# Altium footprint library 28Pins_Project_PCBLib.PcbLib: 26 footprints (part 1 of 2)
Each footprint in its own frame and in the unit in brackets; x right, y up, seen from the top. Pads: shape width x height; smd on the part's side, far side on the other; paste and mask are expansions set on the pad; w line width, h text height; cw(c..) or ccw(c..) is an arc to the next point about the centre after c.
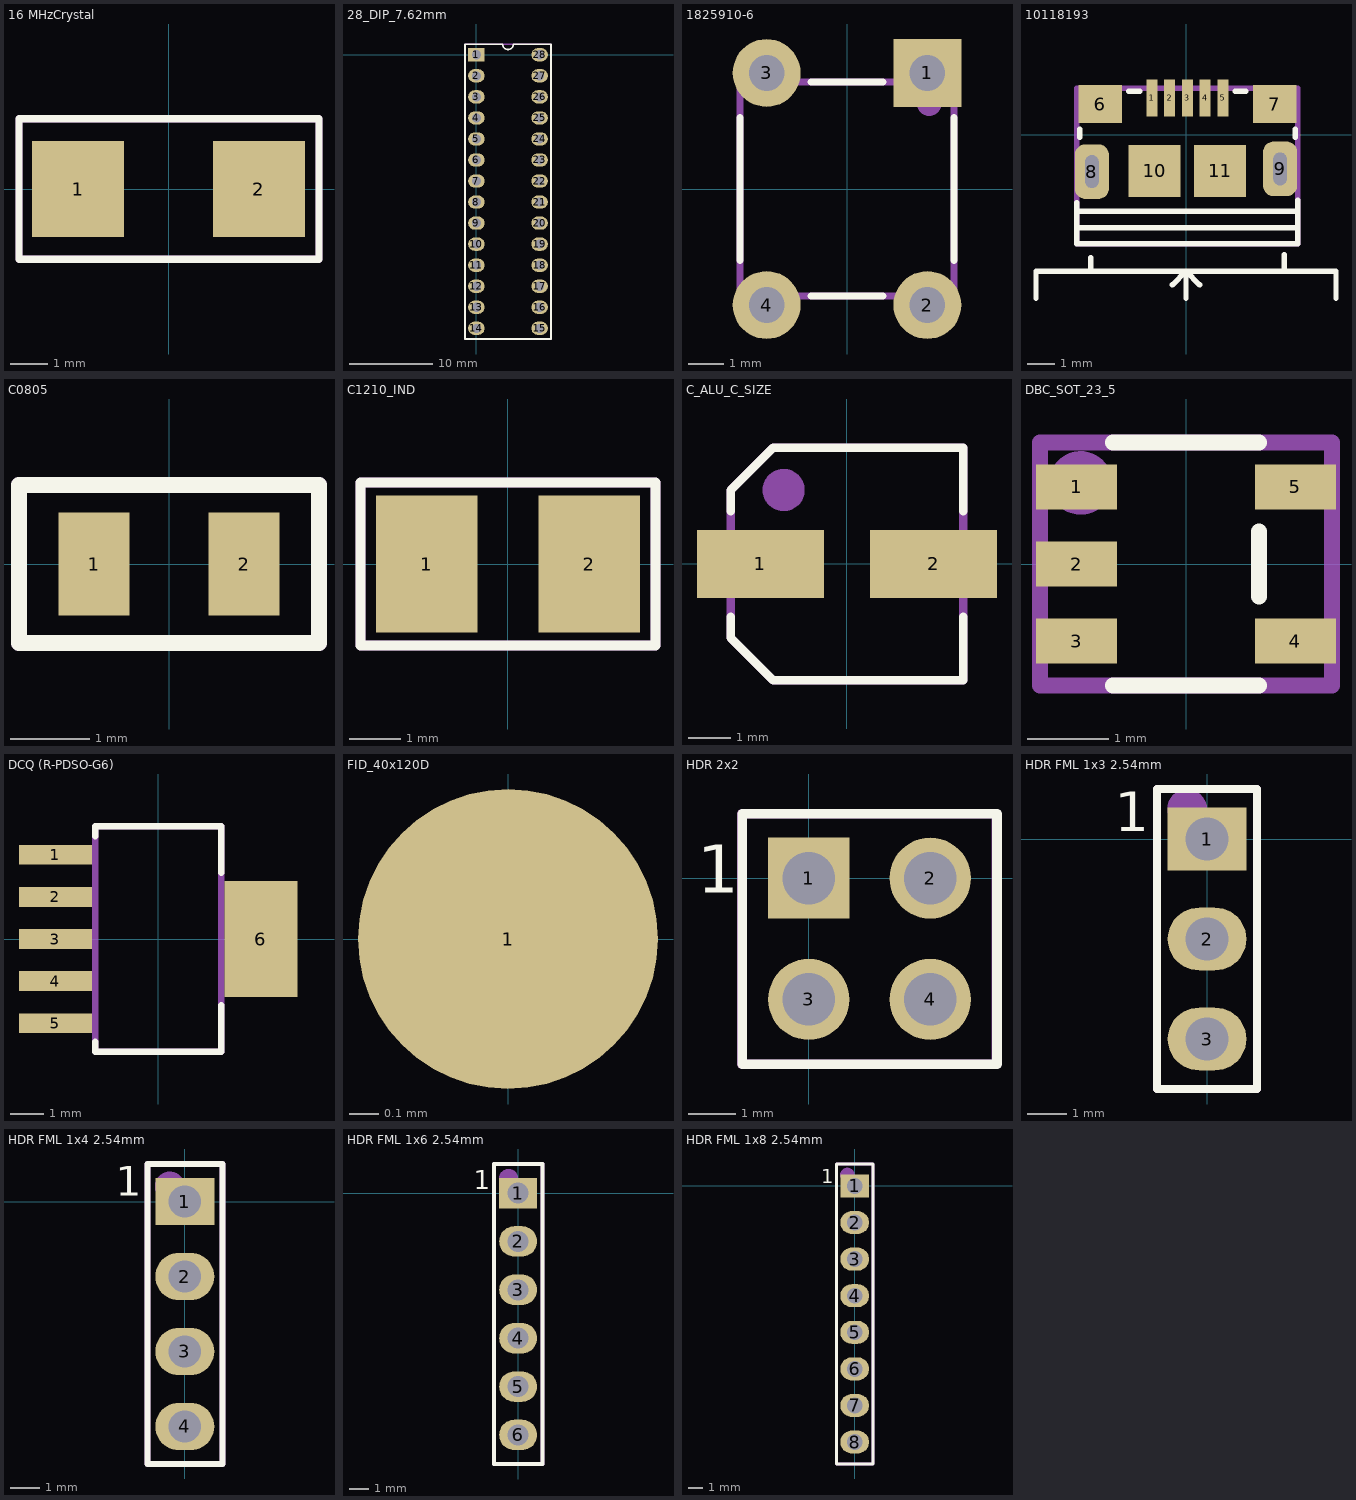
[diagram p0: the footprints below, top view; thin cyan lines are the x and y axes]

## 16 MHzCrystal [mm]
pads (2):
  rect 2.5x2.6 smd: 1(-2.45,0) 2(2.45,0)
Top Overlay:
  lines w0.2: -4.05,-1.9 4.075,-1.9 4.075,1.9 -4.05,1.9 -4.05,-1.9
Mechanical 29:
  lines w0.2: -4.05,-1.9 4.075,-1.9 4.075,1.9 -4.05,1.9 -4.05,-1.9
  text ".Designator" at -3.771,-0.588 h1.52
3D body "User Library-Xtal-ABM7.STEP": height 1.41, standoff 0.01, extent -3.1,-1.9 3.1,1.8

## 28_DIP_7.62mm [mm]
pads (28):
  rect 2x1.6 hole 1.1: 1(0,0)
  oval 2x1.6 hole 1.1: 2(0,-2.54) 3(0,-5.08) 4(0,-7.62) 5(0,-10.16) 6(0,-12.7) 7(0,-15.24) 8(0,-17.78) 9(0,-20.32) 10(0,-22.86) 11(0,-25.4) 12(0,-27.94) 13(0,-30.48) 14(0,-33.02) 15(7.62,-33.02) 16(7.62,-30.48) 17(7.62,-27.94) 18(7.62,-25.4) 19(7.62,-22.86) 20(7.62,-20.32) 21(7.62,-17.78) 22(7.62,-15.24) 23(7.62,-12.7) 24(7.62,-10.16) 25(7.62,-7.62) 26(7.62,-5.08) 27(7.62,-2.54) 28(7.62,0)
Top Overlay:
  lines w0.2: -1.39,-34.31 9.01,-34.31 ; -1.39,-34.29 -1.39,1.27 ; -1.39,1.29 3.175,1.29 ; 3.175,1.27 ccw(c3.81,1.27) 4.445,1.27 9.01,1.27 9.01,-34.29
Mechanical 29:
  circle w0.5: c0,0 r0.461
  lines w0.2: -1.39,-34.31 -1.39,1.29 9.01,1.29 9.01,-34.31 -1.39,-34.31
  text ".Designator" at 4.81,-30.31 h3
3D body "User Library-28 pin dip-2.step": height 7.55, standoff 1.33, extent -0.064,-34.481 7.81,1.461

## 28_DIP_7.62mm_SOCKET [mm]
3D body "dil_socket.stp": height 4.2, standoff -3.17, extent -1.14,-34.26 8.96,1.24

## 1825910-6 [mm]
pads (4):
  rect 1.9x1.9 hole 1: 1(2.25,3.25)
  round 1.9 hole 1: 2(2.25,-3.25) 3(-2.25,3.25) 4(-2.25,-3.25)
Top Overlay:
  lines w0.2: -3,-2 -3,2 ; -1,-3 1,-3 ; -1,3 1,3 ; 3,-2 3,2
Mechanical 29:
  circle w0.5: c2.3,2.4 r0.1
  lines w0.2: -3,-3 3,-3 3,3 -3,3 -3,-3
3D body "User Library-FSM4JLH(1825910-5).step": height 5.01, standoff -3.5, extent -2.995,-3.998 2.995,3.8

## 10118193 [mm]
pads (11):
  rect 0.4x1.35 smd mask+0.05: 1(-1.25,1.35) 2(-0.6,1.35) 3(0.05,1.35) 4(0.7,1.35) 5(1.35,1.35)
  rect 1.6x1.4 smd mask+0.05: 6(-3.15,1.125) 7(3.25,1.125)
  rrect60% 1.25x2 hole 0.5 slot 1.2 at 90 deg mask+0.05: 8(-3.45,-1.35) 9(3.45,-1.25)
  rect 1.9x1.9 smd mask+0.05: 10(-1.15,-1.325) 11(1.25,-1.325)
Top Overlay:
  lines w0.2: -5.5,-6 -5.5,-5 5.5,-5 5.5,-6 ; -4,-3.4 4.1,-3.4 ; -4,-2.8 4.1,-2.8 ; -4,-2.5 -4,-4 4.1,-4 4.1,-2.4 ; -3.9,-0.1 -3.9,0.2 ; -3.5,-5 -3.5,-4.5 ; -2.1,1.6 -1.7,1.6 ; -0.5,-5.5 0,-5 ; 0,-6 0,-5 ; 0.5,-5.5 0,-5 ; 1.8,1.6 2.2,1.6 ; 3.6,-5 3.6,-4.4 ; 4,-0.1 4,0.2
Mechanical 29:
  lines w0.2: -4,-4 4.1,-4 4.1,1.7 -4,1.7 -4,-2.8 -4,-4
  text ".Designator" at -2.846,-2.738 h1.52
3D body "85934.stp": height 2.69, standoff -0.59, extent -3.975,-3.93 4.075,1.65

## C0805 [mm]
pads (2):
  rect 0.9x1.3 smd: 1(-0.95,0) 2(0.95,0)
Top Overlay:
  lines w0.2: -1.9,-1 -1.9,1 1.9,1 1.9,-1 -1.9,-1
Mechanical 29:
  lines w0.2: -1.9,-1 1.9,-1 1.9,1 -1.9,1 -1.9,-1
  text ".Designator" at -1.6,-0.2 h0.6
3D body "CAPC2012X94N EIA 0805.step": height 0.95, standoff 0.01, extent -1,-0.6 1,0.6
3D body "CAPC2012X94N EIA 0805.step": height 1.45, standoff 0.51, extent -1,-0.6 1,0.6

## C1210_IND [mm]
pads (2):
  rect 2x2.7 smd: 1(-1.6,0) 2(1.6,0)
Top Overlay:
  lines w0.2: -2.9,-1.6 -2.9,1.6 2.9,1.6 2.9,-1.6 -2.9,-1.6
Mechanical 29:
  lines w0.2: -2.9,-1.6 -2.9,1.6 2.9,1.6 2.9,-1.6 -2.9,-1.6
  text ".Designator" at -2.646,-0.838 h1.52
3D body: height 2.7, standoff 0, extent -1.7,-1.2 -1.5,1.2
3D body: height 2.7, standoff 0, extent 1.5,-1.2 1.7,1.2
3D body: height 2.7, standoff 0, extent -1.5,-1.2 1.5,1.2

## C_ALU_C_SIZE [mm]
pads (2):
  rect 3x1.6 smd: 1(-2.05,0) 2(2.05,0)
Top Overlay:
  lines w0.2: -2.75,-1.25 -2.75,-1.75 -1.75,-2.75 2.75,-2.75 2.75,-1.25 ; -2.75,1.25 -2.75,1.75 -1.75,2.75 2.75,2.75 2.75,1.25
Mechanical 29:
  circle w0.5: c-1.5,1.75 r0.25
  lines w0.2: -2.75,-1.75 -2.75,1.75 -1.75,2.75 2.75,2.75 2.75,-2.75 -1.75,-2.75 -2.75,-1.75
  text ".Designator" at -1.246,-0.738 h1.52
3D body "User Library-capacitor size C.step": height 5.41, standoff -0.01, extent -2.95,-2.65 2.95,2.65

## DBC_SOT_23_5 [mm]
pads (5):
  rect 1x0.55 smd: 1(-1.35,0.95) 2(-1.35,0) 3(-1.35,-0.95) 4(1.35,-0.95) 5(1.35,0.95)
Top Overlay:
  lines w0.2: -0.9,-1.5 0.9,-1.5 ; -0.9,1.5 0.9,1.5 ; 0.9,-0.4 0.9,0.4
Mechanical 29:
  circle w0.5: c-1.3,1 r0.141
  lines w0.2: -1.8,-1.5 -1.8,1.5 1.8,1.5 1.8,-1.5 -1.8,-1.5
  text ".Designator" at -1.546,-0.738 h1.52
3D body "User Library-TPS79333DBVR.step": height 1.6, standoff -0.02, extent -1.513,-1.525 1.514,1.525

## DCQ (R-PDSO-G6) [mm]
pads (6):
  rect 2.2x0.6 smd: 1(-3.1,2.54) 2(-3.1,1.27) 3(-3.1,0) 4(-3.1,-1.27) 5(-3.1,-2.54)
  rect 2.2x3.5 smd: 6(3.1,0)
Top Overlay:
  lines w0.2: -1.9,-3.1 -1.9,-3.4 1.9,-3.4 1.9,-2 ; -1.9,3.1 -1.9,3.4 1.9,3.4 1.9,2
Mechanical 29:
  lines w0.2: -1.9,-3.4 -1.9,3.4 1.9,3.4 1.9,-3.4 -1.9,-3.4
  text ".Designator" at -1.146,-0.538 h1.52
3D body "User Library-TPS73701DCQ.step": height 1.79, standoff -0.01, extent -3.63,-3.275 3.63,3.275

## FID_40x120D [mil]
pads (1):
  round 40 smd mask+40: 1(0,0)

## HDR 2x2 [mm]
pads (4):
  rect 1.7x1.7 hole 1.1: 1(0,0)
  round 1.7 hole 1.1: 2(2.54,0) 3(0,-2.54) 4(2.54,-2.54)
Top Overlay:
  lines w0.2: -1.397,-3.9 3.937,-3.9 3.937,1.35 -1.397,1.35 -1.397,-3.9
  text "1" at -2.34,-0.308 h1
Mechanical 29:
  circle w0.5: c-0.475,0.45 r0.112
  lines w0.2: -1.4,-3.9 3.925,-3.9 3.925,1.35 -1.4,1.35 -1.4,-3.9
  text ".Designator" at 1.692,-3.3 h1
3D body "2x2 Male Pin Header.STEP": height 3, standoff -10.54, extent -1.225,-3.797 3.775,1.247

## HDR FML 1x3 2.54mm [mm]
pads (3):
  rect 2x1.6 hole 1.1: 1(0,0)
  oval 2x1.6 hole 1.1: 2(0,-2.54) 3(0,-5.08)
Top Overlay:
  lines w0.2: -1.27,-6.35 1.27,-6.35 1.27,1.27 -1.27,1.27 -1.27,-6.35
  text "1" at -2.34,0.2 h1
Mechanical 29:
  circle w0.5: c-0.508,0.762 r0.254
  lines w0.2: -1.27,-6.35 -1.27,1.27 1.27,1.27 1.27,-6.35 -1.27,-6.35
  text ".Designator" at 0.508,-6.35 h1.52
3D body "HDR_1x3_White.stp": height 8.19, standoff -3.31, extent -1.14,-6.15 1.27,1.07

## HDR FML 1x4 2.54mm [mm]
pads (4):
  rect 2x1.6 hole 1.1: 1(0,0)
  oval 2x1.6 hole 1.1: 2(0,-2.54) 3(0,-5.08) 4(0,-7.62)
Top Overlay:
  lines w0.2: -1.27,-8.89 -1.27,1.27 1.27,1.27 1.27,-8.89 -1.27,-8.89
  text "1" at -2.34,0.2 h1
Mechanical 29:
  circle w0.5: c-0.508,0.508 r0.254
  lines w0.2: -1.27,-8.89 1.27,-8.89 1.27,1.27 -1.27,1.27 -1.27,-8.89
  text ".Designator" at 0.762,-8.382 h1.52
3D body "HDR_1x4_White.stp": height 8.19, standoff -3.31, extent -1.27,-8.69 1.14,1.07

## HDR FML 1x6 2.54mm [mm]
pads (6):
  rect 2x1.6 hole 1.1: 1(0,0)
  oval 2x1.6 hole 1.1: 2(0,-2.54) 3(0,-5.08) 4(0,-7.62) 5(0,-10.16) 6(0,-12.7)
Top Overlay:
  lines w0.2: -1.27,-14.224 -1.27,1.524 0,1.524 1.27,1.524 1.27,-14.224 0.635,-14.224 -1.27,-14.224
  text "1" at -2.34,0.2 h1
Mechanical 29:
  circle w0.5: c-0.508,0.762 r0.254
  lines w0.2: -1.27,-14.224 -1.27,1.524 1.27,1.524 1.27,-14.224 -1.27,-14.224
  text ".Designator" at 0.508,-15.24 h1.52
3D body "m20-7820642_asm.stp": height 8.65, standoff -2.85, extent -1.23,-14.17 1.27,1.47

## HDR FML 1x8 2.54mm [mm]
pads (8):
  rect 2x1.6 hole 1.1: 1(0,0)
  oval 2x1.6 hole 1.1: 2(0,-2.54) 3(0,-5.08) 4(0,-7.62) 5(0,-10.16) 6(0,-12.7) 7(0,-15.24) 8(0,-17.78)
Top Overlay:
  lines w0.2: -1.27,-19.304 1.27,-19.304 1.27,1.524 0,1.524 -1.27,1.524 -1.27,-19.304
  text "1" at -2.34,0.2 h1
Mechanical 29:
  circle w0.5: c-0.508,0.762 r0.254
  lines w0.2: -1.27,-19.304 1.27,-19.304 1.27,1.524 -1.27,1.524 -1.27,-19.304
  text ".Designator" at 0.508,-17.272 h1.52
3D body "m20-7820842_asm.stp": height 8.6, standoff -2.9, extent -1.23,-19.25 1.27,1.47